# EAGLE library part IRAM136-3023B (library ICs)
Integrated Power Hybrid IC for low Voltage Motor Applications.
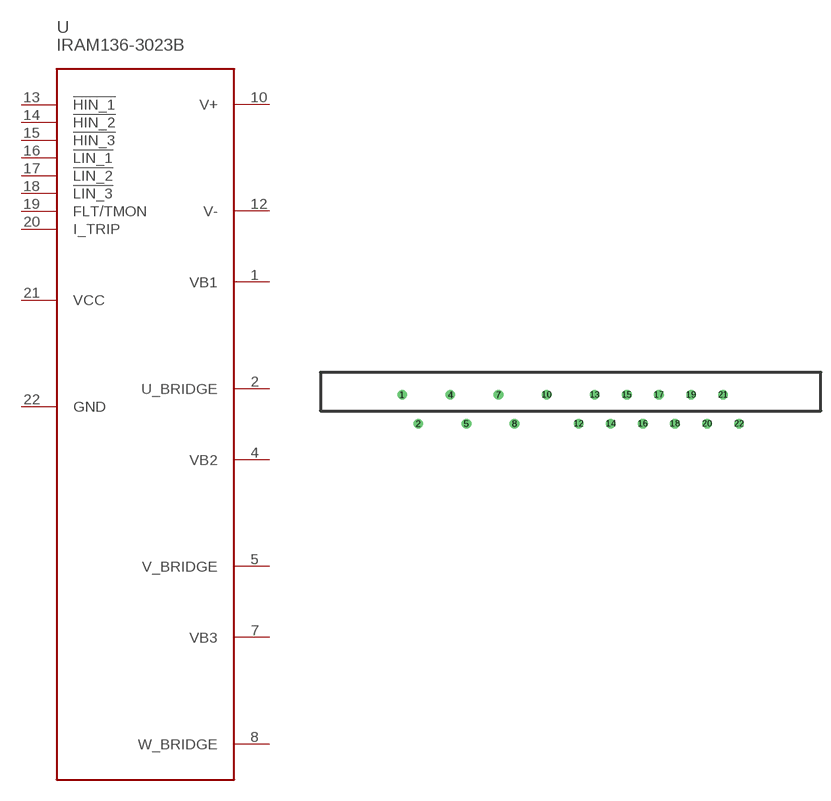
[diagram p65: symbol with the pads of IRAM136-3023B; footprint IRAM136-3023B]

Designator prefix -

## IRAM136-3023B (DIGIKEY: IRAM136-3023B-ND; PRICE_PER: 20.25; VALUE: IRAM136-3023B)  [IRAM136-3023B]
1  VB1
2  U_BRIDGE
4  VB2
5  V_BRIDGE
7  VB3
8  W_BRIDGE
10  V+
12  V-
13  !HIN_1
14  !HIN_2
15  !HIN_3
16  !LIN_1
17  !LIN_2
18  !LIN_3
19  FLT/TMON
20  I_TRIP
21  VCC
22  GND

## Footprint IRAM136-3023B (pad centres in mm)
drill 1: 1 -26.25,-0.5; 2 -23.75,-5; 4 -18.75,-0.5; 5 -16.25,-5; 7 -11.25,-0.5; 8 -8.75,-5; 10 -3.75,-0.5; 12 1.25,-5; 13 3.75,-0.5; 14 6.25,-5; 15 8.75,-0.5; 16 11.25,-5; 17 13.75,-0.5; 18 16.25,-5; 19 18.75,-0.5; 20 21.25,-5; 21 23.75,-0.5; 22 26.25,-5